# Altium footprint library MCUs.PcbLib: 2 footprints
Each footprint in its own frame and in the unit in brackets; x right, y up, seen from the top. Pads: shape width x height; smd on the part's side, far side on the other; paste and mask are expansions set on the pad; w line width, h text height; cw(c..) or ccw(c..) is an arc to the next point about the centre after c.
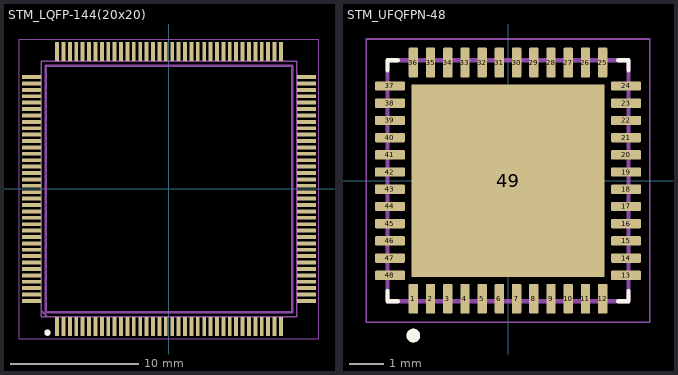
[diagram p0: the footprints below, top view; thin cyan lines are the x and y axes]

## STM_LQFP-144(20x20) [mm]
pads (144):
  rect 0.3x1.475 smd: 1(-8.75,-10.738) 2(-8.25,-10.738) 3(-7.75,-10.738) 4(-7.25,-10.738) 5(-6.75,-10.738) 6(-6.25,-10.738) 7(-5.75,-10.738) 8(-5.25,-10.738) 9(-4.75,-10.738) 10(-4.25,-10.738) 11(-3.75,-10.738) 12(-3.25,-10.738) 13(-2.75,-10.738) 14(-2.25,-10.738) 15(-1.75,-10.738) 16(-1.25,-10.738) 17(-0.75,-10.738) 18(-0.25,-10.738) 19(0.25,-10.738) 20(0.75,-10.738) 21(1.25,-10.738) 22(1.75,-10.738) 23(2.25,-10.738) 24(2.75,-10.738) 25(3.25,-10.738) 26(3.75,-10.738) 27(4.25,-10.738) 28(4.75,-10.738) 29(5.25,-10.738) 30(5.75,-10.738) 31(6.25,-10.738) 32(6.75,-10.738) 33(7.25,-10.738) 34(7.75,-10.738) 35(8.25,-10.738) 36(8.75,-10.738) 73(8.75,10.738) 74(8.25,10.738) 75(7.75,10.738) 76(7.25,10.738) 77(6.75,10.738) 78(6.25,10.738) 79(5.75,10.738) 80(5.25,10.738) 81(4.75,10.738) 82(4.25,10.738) 83(3.75,10.738) 84(3.25,10.738) 85(2.75,10.738) 86(2.25,10.738) 87(1.75,10.738) 88(1.25,10.738) 89(0.75,10.738) 90(0.25,10.738) 91(-0.25,10.738) 92(-0.75,10.738) 93(-1.25,10.738) 94(-1.75,10.738) 95(-2.25,10.738) 96(-2.75,10.738) 97(-3.25,10.738) 98(-3.75,10.738) 99(-4.25,10.738) 100(-4.75,10.738) 101(-5.25,10.738) 102(-5.75,10.738) 103(-6.25,10.738) 104(-6.75,10.738) 105(-7.25,10.738) 106(-7.75,10.738) 107(-8.25,10.738) 108(-8.75,10.738)
  rect 1.475x0.3 smd: 37(10.738,-8.75) 38(10.738,-8.25) 39(10.738,-7.75) 40(10.738,-7.25) 41(10.738,-6.75) 42(10.738,-6.25) 43(10.738,-5.75) 44(10.738,-5.25) 45(10.738,-4.75) 46(10.738,-4.25) 47(10.738,-3.75) 48(10.738,-3.25) 49(10.738,-2.75) 50(10.738,-2.25) 51(10.738,-1.75) 52(10.738,-1.25) 53(10.738,-0.75) 54(10.738,-0.25) 55(10.738,0.25) 56(10.738,0.75) 57(10.738,1.25) 58(10.738,1.75) 59(10.738,2.25) 60(10.738,2.75) 61(10.738,3.25) 62(10.738,3.75) 63(10.738,4.25) 64(10.738,4.75) 65(10.738,5.25) 66(10.738,5.75) 67(10.738,6.25) 68(10.738,6.75) 69(10.738,7.25) 70(10.738,7.75) 71(10.738,8.25) 72(10.738,8.75) 109(-10.738,8.75) 110(-10.738,8.25) 111(-10.738,7.75) 112(-10.738,7.25) 113(-10.738,6.75) 114(-10.738,6.25) 115(-10.738,5.75) 116(-10.738,5.25) 117(-10.738,4.75) 118(-10.738,4.25) 119(-10.738,3.75) 120(-10.738,3.25) 121(-10.738,2.75) 122(-10.738,2.25) 123(-10.738,1.75) 124(-10.738,1.25) 125(-10.738,0.75) 126(-10.738,0.25) 127(-10.738,-0.25) 128(-10.738,-0.75) 129(-10.738,-1.25) 130(-10.738,-1.75) 131(-10.738,-2.25) 132(-10.738,-2.75) 133(-10.738,-3.25) 134(-10.738,-3.75) 135(-10.738,-4.25) 136(-10.738,-4.75) 137(-10.738,-5.25) 138(-10.738,-5.75) 139(-10.738,-6.25) 140(-10.738,-6.75) 141(-10.738,-7.25) 142(-10.738,-7.75) 143(-10.738,-8.25) 144(-10.738,-8.75)
Top Overlay:
  circle w0.25: c-9.5,-11.225 r0.125
Assembly Top:
  lines w0.05: -11.725,-11.725 11.725,-11.725 11.725,11.725 -11.725,11.725 -11.725,-11.725
  lines w0.1: -10,-9.5 -9.5,-10 ; -10,-10 10,-10 10,10 -10,10 -10,-10
Mechanical 22:
  lines w0.2: -9.65,-9.65 9.65,-9.65 9.65,9.65 -9.65,9.65 -9.65,-9.65
3D body: height 1.6, standoff 0, extent -11,-11 11,11

## STM_UFQFPN-48 [mm]
height 0.65
pads (49):
  rrect25% 0.27x0.87 smd: 1(-2.75,-3.43) 2(-2.25,-3.43) 3(-1.75,-3.43) 4(-1.25,-3.43) 5(-0.75,-3.43) 6(-0.25,-3.43) 7(0.25,-3.43) 8(0.75,-3.43) 9(1.25,-3.43) 10(1.75,-3.43) 11(2.25,-3.43) 12(2.75,-3.43) 25(2.75,3.43) 26(2.25,3.43) 27(1.75,3.43) 28(1.25,3.43) 29(0.75,3.43) 30(0.25,3.43) 31(-0.25,3.43) 32(-0.75,3.43) 33(-1.25,3.43) 34(-1.75,3.43) 35(-2.25,3.43) 36(-2.75,3.43)
  rrect25% 0.87x0.27 smd: 13(3.43,-2.75) 14(3.43,-2.25) 15(3.43,-1.75) 16(3.43,-1.25) 17(3.43,-0.75) 18(3.43,-0.25) 19(3.43,0.25) 20(3.43,0.75) 21(3.43,1.25) 22(3.43,1.75) 23(3.43,2.25) 24(3.43,2.75) 37(-3.43,2.75) 38(-3.43,2.25) 39(-3.43,1.75) 40(-3.43,1.25) 41(-3.43,0.75) 42(-3.43,0.25) 43(-3.43,-0.25) 44(-3.43,-0.75) 45(-3.43,-1.25) 46(-3.43,-1.75) 47(-3.43,-2.25) 48(-3.43,-2.75)
  rect 5.6x5.6 smd paste-4: 49(0,0)
Top Overlay:
  circle w0.2: c-2.75,-4.5 r0.1
  lines w0.127: -3.5,-3.205 -3.5,-3.5 -3.205,-3.5 ; -3.5,3.205 -3.5,3.5 -3.205,3.5 ; 3.205,-3.5 3.5,-3.5 3.5,-3.205 ; 3.205,3.5 3.5,3.5 3.5,3.205
Top Paste:
  region: -0.51,-0.51 -0.51,-2.29 -2.29,-2.29 -2.29,-0.51
  region: -0.51,2.29 -0.51,0.51 -2.29,0.51 -2.29,2.29
  region: 2.29,-0.51 2.29,-2.29 0.51,-2.29 0.51,-0.51
  region: 2.29,2.29 2.29,0.51 0.51,0.51 0.51,2.29
3D Top:
  circle w0.2: c-2.75,-4.5 r0.1
  lines w0.127: -3.5,-3.5 -3.5,3.5 3.5,3.5 3.5,-3.5 -3.5,-3.5
Courtyard Top:
  lines w0.05: -4.115,-4.115 -4.115,4.115 4.115,4.115 4.115,-4.115 -4.115,-4.115
3D body: height 0.6, standoff 0, extent -3.5,-3.5 3.5,3.5
3D body: height 0.6, standoff 0, extent -3.5,-3.5 3.5,3.5